# EAGLE library part L4949ED (library stabilizatory)
MULTIFUNCTION VERY LOW DROP VOLTAGE REGULATOR
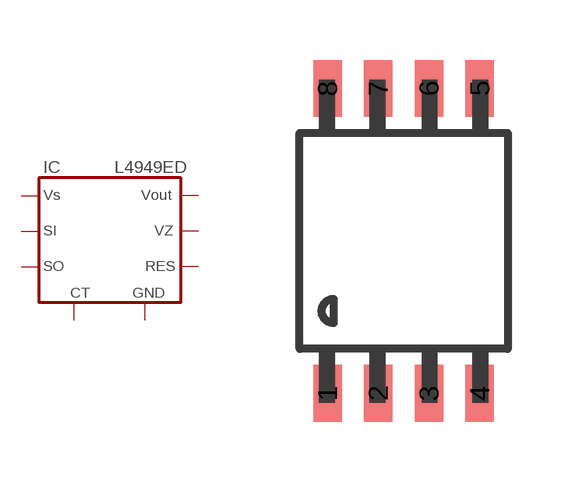
[diagram p9: symbol with the pads of SO8; footprint SO8]

Designator prefix IC

## L4949ED  [SO8]
1  VS  in
2  SI  in
3  VZ  pas
4  CT  in
5  GND  in
6  RES  pas
7  SO  in
8  VOUT  pas

## Footprint SO8 (pad centres in mm)
SO8 Package
smd 0.711 x 1.422: 1 -1.905,-3.81; 2 -0.635,-3.81; 3 0.635,-3.81; 4 1.905,-3.81; 5 1.905,3.81; 6 0.635,3.81; 7 -0.635,3.81; 8 -1.905,3.81